# Altium schematic symbol library MPPT_SCH_Library.SchLib: 29 symbols
Pins are listed as number, name and electrical type; pins without a type are passive.

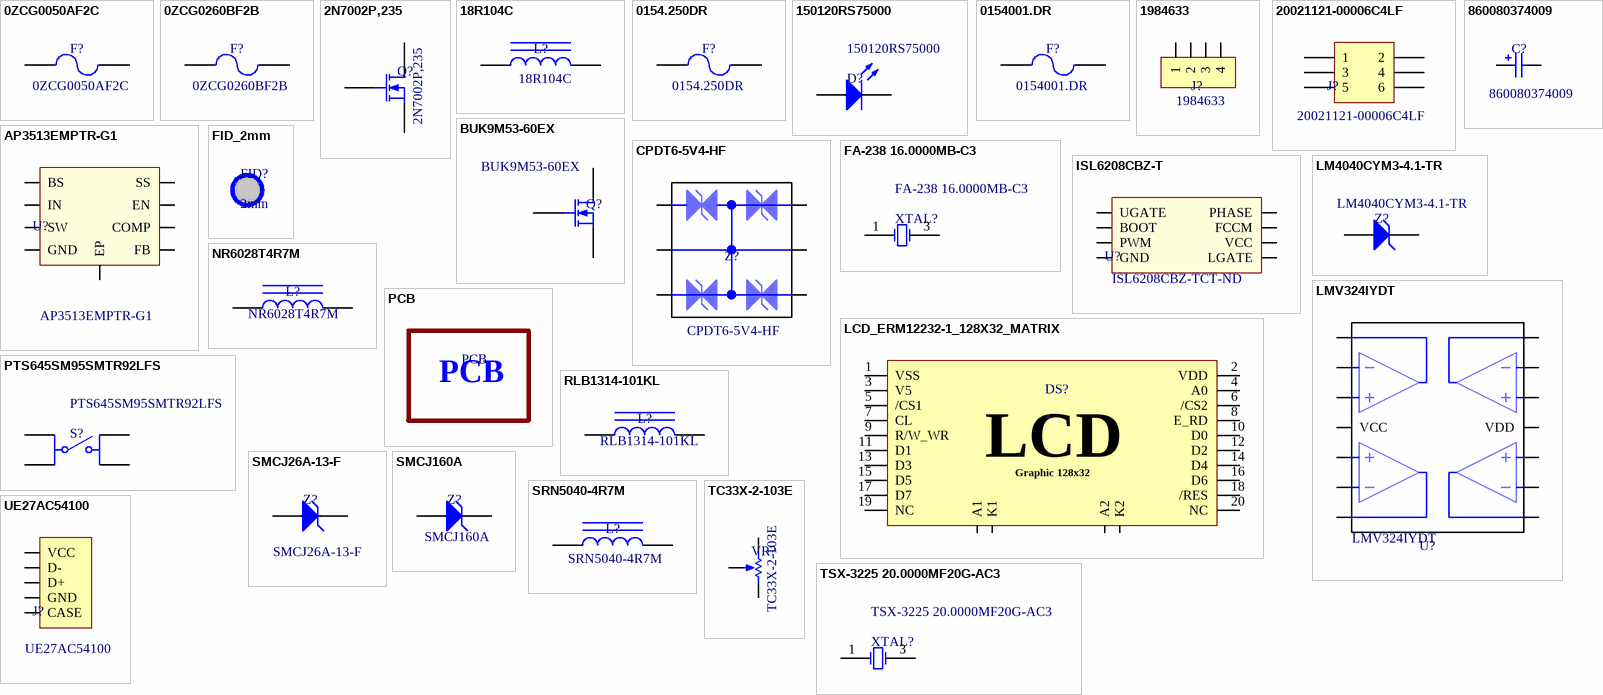
[diagram p0: symbols 0ZCG0050AF2C to UE27AC54100]

## 0ZCG0050AF2C
designator F?  Manufacturer Part Number: 0ZCG0050AF2C  (hidden comment: *)
PTC RESET FUSE 30V 500MA 1812; Manufacturer: Bel Fuse Inc.; Type: Polymeric; Approvals: cURus, TUV; Supplier 1: Digi-Key; RoHS: RoHS Compliant; Category: Circuit Protection; Stock 1: 287653; Pricing 1: 1=0.19, 5=0.186, 10=0.18, 50=0.1598, 100=0.1488, 250=0.13232, 500=0.11026, 1000=0.10475 (CAD); Packaging: Cut Tape (CT); Part Status: Active; Voltage - Max: 30V; Operating Temperature: -40°C ~ 85°C; Ratings: -; Mounting Type: Surface Mount; Package / Case: 1812 (4532 Metric), Concave; Size / Dimension: 0.179" L x 0.128" W (4.55mm x 3.24mm); Height - Seated (Max): -; Thickness (Max): 0.030" (0.75mm); Lead Spacing: -; ComponentLink1URL: https://www.belfuse.com/resources/CircuitProtection/datasheets/0ZCG%20Nov2016.pdf; ComponentLink1Description: https://www.belfuse.com/resources/CircuitProtection/datasheets/0ZCG%20Nov2016.pdf; Supplier Part Number 1: 507-1762-1-ND
footprint OZCG0_BEL_FUSE (Bel Fuse PPTC)
pins: 1, 2

## 0ZCG0260BF2B
designator F?  Manufacturer Part Number: 0ZCG0260BF2B  (hidden comment: *)
PTC RESET FUSE 16V 2.6A 1812; Manufacturer: Bel Fuse Inc.; Type: Polymeric; Approvals: cURus, TUV; Supplier 1: Digi-Key; RoHS: RoHS Compliant; Category: Circuit Protection; Stock 1: 58933; Pricing 1: 1=0.39, 5=0.376, 10=0.358, 50=0.3196, 100=0.2977, 250=0.26464, 500=0.22052 (CAD); Packaging: Cut Tape (CT); Part Status: Active; Voltage - Max: 16V; Operating Temperature: -40°C ~ 85°C; Ratings: -; Mounting Type: Surface Mount; Package / Case: 1812 (4532 Metric), Concave; Size / Dimension: 0.179" L x 0.128" W (4.55mm x 3.24mm); Height - Seated (Max): -; Thickness (Max): 0.061" (1.55mm); Lead Spacing: -; ComponentLink1URL: https://www.belfuse.com/resources/CircuitProtection/datasheets/0ZCG%20Nov2016.pdf; ComponentLink1Description: https://www.belfuse.com/resources/CircuitProtection/datasheets/0ZCG%20Nov2016.pdf; Supplier Part Number 1: 507-1780-1-ND
footprint OZCG0_BEL_FUSE (Bel Fuse PPTC)
pins: 1, 2

## 2N7002P,235
designator Q?  Manufacturer Part Number: 2N7002P,235  (hidden comment: *)
MOSFET N-CH 60V 0.36A SOT-23; Manufacturer: Nexperia USA Inc.; FET Type: N-Channel; Current - Continuous Drain (Id) @ 25°C: 360mA (Ta); Drive Voltage (Max Rds On,  Min Rds On): 10V; Vgs(th) (Max) @ Id: 2.4V @ 250µA; Vgs (Max): ±20V; Power Dissipation (Max): 350mW (Ta); Rds On (Max) @ Id, Vgs: 1.6 Ohm @ 500mA, 10V; Supplier 1: Digi-Key; RoHS: RoHS Compliant; Category: Discrete Semiconductor Products; Stock 1: 95195; Pricing 1: 1=0.22, 10=0.203, 100=0.1331, 500=0.06506, 1000=0.04437 (CAD); Packaging: Cut Tape (CT); Part Status: Active; Technology: MOSFET (Metal Oxide); FET Feature: -; Operating Temperature: -55°C ~ 150°C (TJ); Mounting Type: Surface Mount; Supplier Device Package: TO-236AB (SOT23); Package / Case: TO-236-3, SC-59, SOT-23-3; ComponentLink1URL: https://assets.nexperia.com/documents/data-sheet/2N7002P.pdf; ComponentLink1Description: https://assets.nexperia.com/documents/data-sheet/2N7002P.pdf; Supplier Part Number 1: 1727-1865-1-ND
footprint 2N7002,235 (SOT-23)
pins: 1 G, 2 S, 3 D

## 18R104C
designator L?  Manufacturer Part Number: 18R104C  (hidden comment: *)
FIXED IND 100UH 1.2A 100 MOHM TH; Manufacturer: Murata Power Solutions Inc.; Type: Wirewound; Tolerance: ±10%; Shielding: Unshielded; DC Resistance (DCR): 100 mOhm Max; Q @ Freq: 40 @ 100kHz; Supplier 1: Digi-Key; RoHS: RoHS Compliant; Category: Inductors, Coils, Chokes; Stock 1: 100; Pricing 1: 1=1.95, 10=1.923, 25=1.9088, 50=1.854, 100=1.7716, 250=1.64804, 500=1.53816, 1000=1.53431 (CAD); Packaging: Bulk; Part Status: Active; Material - Core: -; Ratings: -; Operating Temperature: 0°C ~ 70°C; Mounting Type: Through Hole; Package / Case: Radial, Vertical Cylinder; Supplier Device Package: -; Size / Dimension: 0.539" Dia (13.70mm); Height - Seated (Max): 0.626" (15.90mm); ComponentLink1URL: https://www.murata-ps.com/data/magnetics/kmp_1800r.pdf; ComponentLink1Description: https://www.murata-ps.com/data/magnetics/kmp_1800r.pdf; Supplier Part Number 1: 811-1320-ND
footprint muRata_1800R_Series (Murata Radial TH inductor)
pins: 1, 2

## 0154.250DR
designator F?  Manufacturer Part Number: 0154.250DR  (hidden comment: *)
FUSE BOARD MNT 250MA 125VAC/VDC; Manufacturer: Littelfuse Inc.; Fuse Type: Board Mount (Cartridge Style Excluded); Response Time: Fast; Breaking Capacity @ Rated Voltage: 50A; Approvals: UL; Supplier 1: Digi-Key; RoHS: RoHS Compliant; Category: Circuit Protection; Stock 1: 2479; Pricing 1: 1=4.13, 5=3.934, 10=3.737, 50=3.0158, 100=2.557, 250=2.49144, 500=2.09804 (CAD); Packaging: Cut Tape (CT); Part Status: Active; Package / Case: 2-SMD, Square End Block with Holder; Mounting Type: Holder, Surface Mount; Operating Temperature: -55°C ~ 125°C; Color: -; Size / Dimension: 0.383" L x 0.198" W x 0.150" H (9.73mm x 5.03mm x 3.81mm); ComponentLink1URL: http://www.littelfuse.com/~/media/electronics/datasheets/fuses/littelfuse_fuse_154_154t_154l_154tl_datasheet.pdf.pdf; ComponentLink1Description: http://www.littelfuse.com/~/media/electronics/datasheets/fuses/littelfuse_fuse_154_154t_154l_154tl_datasheet.pdf.pdf; Supplier Part Number 1: F1219CT-ND
footprint LITTELFUSE_154_154T_154L_154TL (LittelFuse Fuseholder 10A)
pins: 1, 2

## 150120RS75000
designator D?  Manufacturer Part Number: 150120RS75000  (hidden comment: *)
LED RED CLEAR 1206 SMD; Manufacturer: Wurth Electronics Inc.; Lens Color: Colorless; Millicandela Rating: 150mcd; Lens Style/Size: Rectangle with Flat Top, 2.00mm x 1.60mm; Voltage - Forward (Vf) (Typ): 2V; Current - Test: 20mA; Viewing Angle: 140°; Wavelength - Dominant: 625nm; Wavelength - Peak: 630nm; Supplier 1: Digi-Key; RoHS: RoHS Compliant; Category: Optoelectronics; Stock 1: 14076; Pricing 1: 1=0.27, 50=0.2582, 100=0.2211, 500=0.18952 (CAD); Packaging: Cut Tape (CT); Part Status: Active; Color: Red; Lens Transparency: Clear; Mounting Type: Surface Mount; Features: -; Package / Case: 1206 (3216 Metric); Supplier Device Package: 1206; Size / Dimension: 3.20mm L x 1.60mm W; Height (Max): 0.69mm; ComponentLink1URL: http://katalog.we-online.de/led/datasheet/150120RS75000.pdf; ComponentLink1Description: http://katalog.we-online.de/led/datasheet/150120RS75000.pdf; Supplier Part Number 1: 732-4991-1-ND
footprint 150120RS75000 (LED 1206 Package)
pins: 1 K, 2 A

## 0154001.DR
designator F?  Manufacturer Part Number: 0154001.DR  (hidden comment: *)
FUSE BRD MNT 1A 125VAC/VDC 2SMD; Manufacturer: Littelfuse Inc.; Fuse Type: Board Mount (Cartridge Style Excluded); Response Time: Fast; Breaking Capacity @ Rated Voltage: 50A; Approvals: PSE, UL; Supplier 1: Digi-Key; RoHS: RoHS Compliant; Category: Circuit Protection; Stock 1: 11418; Pricing 1: 1=3.5, 5=3.34, 10=3.172, 50=2.5608, 100=2.1711, 250=2.1154, 500=1.7814 (CAD); Packaging: Cut Tape (CT); Part Status: Active; Package / Case: 2-SMD, Square End Block with Holder; Mounting Type: Holder, Surface Mount; Operating Temperature: -55°C ~ 125°C; Color: -; Size / Dimension: 0.383" L x 0.198" W x 0.150" H (9.73mm x 5.03mm x 3.81mm); ComponentLink1URL: http://www.littelfuse.com/~/media/electronics/datasheets/fuses/littelfuse_fuse_154_154t_154l_154tl_datasheet.pdf.pdf; ComponentLink1Description: http://www.littelfuse.com/~/media/electronics/datasheets/fuses/littelfuse_fuse_154_154t_154l_154tl_datasheet.pdf.pdf; Supplier Part Number 1: F1222CT-ND
footprint LITTELFUSE_154_154T_154L_154TL (LittelFuse Fuseholder 10A)
pins: 1, 2

## 1984633
designator J?  Manufacturer Part Number: 1984633  (hidden comment: *)
CONN TERM BLOCK T/H 4POS 3.5MM; Manufacturer: Phoenix Contact; Positions Per Level: 4; Pitch: 0.138" (3.50mm); Mating Orientation: Horizontal with Board; Wire Gauge: 16-26 AWG; Wire Termination: Screw; Torque - Screw: 0.22-0.25 Nm (1.9-2.2 Lb-In); Screw Thread: M2; Supplier 1: Digi-Key; RoHS: RoHS Compliant; Category: Connectors, Interconnects; Stock 1: 4509; Pricing 1: 1=1.24, 10=1.185, 50=1.133, 100=1.1021, 250=1.03, 500=0.94762, 1000=0.87551 (CAD); Packaging: Bulk; Part Status: Active; Mounting Type: Through Hole; Features: Interlocking (Side); Color: Green; Operating Temperature: -; Housing Material: Polyamide (PA), Nylon; Contact Material - Plating: -; Clamp Material - Plating: -; Screw Material - Plating: -; ComponentLink1URL: https://media.digikey.com/pdf/Data%20Sheets/Phoenix%20Contact%20PDFs/Combicon%20Compact%20Series.pdf; ComponentLink1Description: https://media.digikey.com/pdf/Data%20Sheets/Phoenix%20Contact%20PDFs/Combicon%20Compact%20Series.pdf; Supplier Part Number 1: 277-1860-ND
footprint 1984633 (Phoenix Contact PCB Screw Termination Block 4 position)
pins: 1, 2, 3, 4

## 20021121-00006C4LF
designator J?  Manufacturer Part Number: 20021121-00006C4LF  (hidden comment: *)
CONN HEADER 6POS DL UNSHRD SMD; Manufacturer: Amphenol FCI; Pitch - Mating: 0.050" (1.27mm); Number of Positions: 6; Number of Positions Loaded: All; Style: Board to Board; Shrouding: Unshrouded; Contact Length - Mating: 0.120" (3.05mm); Material Flammability Rating: UL94 V-0; Supplier 1: Digi-Key; RoHS: RoHS Compliant; Category: Connectors, Interconnects; Stock 1: 40686; Pricing 1: 1=0.73, 10=0.683, 100=0.523 (CAD); Packaging: Cut Tape (CT); Part Status: Active; Connector Type: Header; Contact Type: Male Pin; Number of Rows: 2; Row Spacing - Mating: 0.050" (1.27mm); Mounting Type: Surface Mount; Termination: Solder; Fastening Type: Push-Pull; Contact Length - Post: -; Overall Contact Length: -; Insulation Height: -; Contact Shape: Square; Contact Finish - Mating: Gold; Contact Finish Thickness - Mating: 10µin (0.25µm); Contact Finish - Post: Tin; Contact Material: Copper Alloy; Insulation Material: Thermoplastic; Features: Pick and Place; Operating Temperature: -; Ingress Protection: -; Insulation Color: Black; Current Rating: -; Voltage Rating: -; Mated Stacking Heights: -; Contact Finish Thickness - Post: 50µin (1.27µm); Applications: -; ComponentLink1URL: https://cdn.amphenol-icc.com/media/wysiwyg/files/drawing/20021121.pdf; ComponentLink1Description: https://cdn.amphenol-icc.com/media/wysiwyg/files/drawing/20021121.pdf; Supplier Part Number 1: 609-3693-1-ND
footprint 20021121-00006 (2x3 Header 50 mil pitch)
pins: 1, 2, 3, 4, 5, 6

## 860080374009
designator C?  Manufacturer Part Number: 860080374009  (hidden comment: *)
CAP ALUM 220UF 20% 16V THRU HOLE; Manufacturer: Wurth Electronics Inc.; Lifetime @ Temp.: 3000 Hrs @ 105°C; Polarization: Polar; Supplier 1: Digi-Key; RoHS: RoHS Compliant; Category: Capacitors; Stock 1: 716; Pricing 1: 1=0.33, 50=0.276, 100=0.2403, 250=0.21424 (CAD); Packaging: Cut Tape (CT); Part Status: Active; Tolerance: ±20%; ESR (Equivalent Series Resistance): -; Operating Temperature: -55°C ~ 105°C; Ratings: -; Applications: General Purpose; Lead Spacing: 0.138" (3.50mm); Size / Dimension: 0.315" Dia (8.00mm); Height - Seated (Max): 0.512" (13.00mm); Surface Mount Land Size: -; Mounting Type: Through Hole; Package / Case: Radial, Can; ComponentLink1URL: http://katalog.we-online.de/pbs/datasheet/860080374009.pdf; ComponentLink1Description: http://katalog.we-online.de/pbs/datasheet/860080374009.pdf; Supplier Part Number 1: 732-8997-1-ND
footprint 860080374009
pins: 1, 2

## AP3513EMPTR-G1
designator U?  Manufacturer Part Number: AP3513EMPTR-G1  (hidden comment: *)
IC REG BUCK ADJ 3A SYNC 8SOIC; Manufacturer: Diodes Incorporated; Function: Step-Down; Output Configuration: Positive; Output Type: Adjustable; Number of Outputs: 1; Voltage - Input (Min): 4.5V; Voltage - Input (Max): 18V; Voltage - Output (Min/Fixed): 0.925V; Voltage - Output (Max): 16.2V; Frequency - Switching: 500kHz; Synchronous Rectifier: Yes; Supplier 1: Digi-Key; RoHS: RoHS Compliant; Category: Integrated Circuits (ICs); Stock 1: 23505; Pricing 1: 1=0.92, 10=0.791, 100=0.5905, 500=0.46394, 1000=0.3585 (CAD); Packaging: Cut Tape (CT); Part Status: Active; Topology: Buck; Current - Output: 3A; Operating Temperature: -40°C ~ 85°C (TA); Mounting Type: Surface Mount; Package / Case: 8-SOIC (0.154", 3.90mm Width) Exposed Pad; Supplier Device Package: 8-PSOP; ComponentLink1URL: https://www.diodes.com/assets/Datasheets/AP3513E.pdf; ComponentLink1Description: https://www.diodes.com/assets/Datasheets/AP3513E.pdf; Supplier Part Number 1: AP3513EMPTR-G1DICT-ND
footprint AP3513E (SOIC-8)
pins: 1 BS, 2 IN, 3 SW, 5 GND, 5 FB, 6 COMP, 7 EN, 8 SS, 9 EP

## BUK9M53-60EX
designator Q?  Manufacturer Part Number: BUK9M53-60EX  (hidden comment: *)
MOSFET N-CH 60V 17A LFPAK; Manufacturer: Nexperia USA Inc.; FET Type: N-Channel; Current - Continuous Drain (Id) @ 25°C: 17A (Tc); Drive Voltage (Max Rds On,  Min Rds On): 5V; Vgs(th) (Max) @ Id: 2.1V @ 1mA; Vgs (Max): ±10V; Power Dissipation (Max): 36W (Tc); Rds On (Max) @ Id, Vgs: 46 mOhm @ 5A, 10V; Supplier 1: Digi-Key; RoHS: RoHS Compliant; Category: Discrete Semiconductor Products; Stock 1: 481; Pricing 1: 1=0.73, 10=0.61, 100=0.4575, 500=0.33548 (CAD); Packaging: Cut Tape (CT); Part Status: Active; Technology: MOSFET (Metal Oxide); FET Feature: -; Operating Temperature: -55°C ~ 175°C (TJ); Mounting Type: Surface Mount; Supplier Device Package: LFPAK33; Package / Case: SOT-1210, 8-LFPAK33 (5-Lead); ComponentLink1URL: https://assets.nexperia.com/documents/data-sheet/BUK9M53-60E.pdf; ComponentLink1Description: https://assets.nexperia.com/documents/data-sheet/BUK9M53-60E.pdf; Supplier Part Number 1: 1727-2583-1-ND
footprint BUK9M53-60E (TSOP, 8-Leads, Body 3,30x2,60mm, Pitch 0,65mm, Thermal Pad 0,00x0,00mm, IPC Medium Density)
pins: 1 S, 2 S, 3 S, 4 G, 5 D, 6 D, 7 D, 8 D

## CPDT6-5V4-HF
designator Z?  Manufacturer Part Number: CPDT6-5V4-HF  (hidden comment: *)
TVS DIODE 5VWM 15VC SOT23-6; Manufacturer: Comchip Technology; Voltage - Reverse Standoff (Typ): 5V; Voltage - Breakdown (Min): 5.1V; Voltage - Clamping (Max) @ Ipp: 15V; Current - Peak Pulse (10/1000µs): 5A (8/20µs); Power - Peak Pulse: 75W; Power Line Protection: No; Supplier 1: Digi-Key; RoHS: RoHS Compliant; Stock 1: 31089; Pricing 1: 1=0.59, 10=0.499, 25=0.4356, 100=0.3734, 250=0.32368, 500=0.27384, 1000=0.21162 (CAD); Packaging: Cut Tape (CT); Part Status: Active; Type: Zener; Applications: General Purpose; Capacitance @ Frequency: -; Operating Temperature: -; Mounting Type: Surface Mount; Package / Case: SOT-23-6; Supplier Device Package: SOT-23-6; ComponentLink1URL: http://www.comchiptech.com/cms/UserFiles/CPDT6-5V4-HF%20RevC.pdf; ComponentLink1Description: http://www.comchiptech.com/cms/UserFiles/CPDT6-5V4-HF%20RevC.pdf; Supplier Part Number 1: 641-1086-1-ND; Category: Circuit Protection
footprint CPDT6-5V4-HF (SOT23, 6-Leads, Body 2,90x2,80mm, Pitch 0,95mm, IPC Medium Density)
pins: 1, 2, 3, 4, 5, 6

## FA-238 16.0000MB-C3
designator XTAL?  Manufacturer Part Number: FA-238 16.0000MB-C3  (hidden comment: *)
CRYSTAL 16.0000MHZ 18PF SMD; Manufacturer: EPSON; Frequency Stability: ±30ppm; Frequency Tolerance: ±50ppm; Operating Mode: Fundamental; Supplier 1: Digi-Key; RoHS: RoHS Compliant; Category: Crystals, Oscillators, Resonators; Stock 1: 31762; Pricing 1: 1=0.63, 10=0.524, 50=0.4706, 100=0.4183 (CAD); Packaging: Cut Tape (CT); Part Status: Active; Type: MHz Crystal; Load Capacitance: 18pF; Operating Temperature: -20°C ~ 70°C; Ratings: -; Mounting Type: Surface Mount; Package / Case: 4-SMD, No Lead; Size / Dimension: 0.126" L x 0.098" W (3.20mm x 2.50mm); Height - Seated (Max): 0.028" (0.70mm); ComponentLink1URL: https://support.epson.biz/td/api/doc_check.php?dl=brief_FA-238V_en.pdf; ComponentLink1Description: https://support.epson.biz/td/api/doc_check.php?dl=brief_FA-238V_en.pdf; Supplier Part Number 1: SER3686CT-ND
footprint EPSON_FA-238 (EPSON XTAL)
pins: 1 OSC1, 3 OSC2

## FID_2mm
designator FID?, comment 2mm  (no BOM)
Fiducial, 2mm
footprint FID_2MM (Fiducial, 2mm)

## ISL6208CBZ-T
designator U?  Supplier Part Number 1: ISL6208CBZ-TCT-ND  (hidden comment: *)
IC MOSFET DRVR SYNC BUCK 8-SOIC; Manufacturer: Intersil; Manufacturer Part Number: ISL6208CBZ-T; Driven Configuration: Half-Bridge; Channel Type: Synchronous; Gate Type: N-Channel MOSFET; Voltage - Supply: 4.5 V ~ 5.5 V; Logic Voltage - VIL, VIH: 0.5V, 2V; Current - Peak Output (Source, Sink): 2A, 2A; Input Type: Non-Inverting; Rise / Fall Time (Typ): 8ns, 8ns; Supplier 1: Digi-Key; RoHS: RoHS Compliant; Category: Integrated Circuits (ICs); Stock 1: 1957; Pricing 1: 1=2.62, 10=2.355, 100=1.893, 500=1.55528, 1000=1.28866 (CAD); Packaging: Cut Tape (CT); Part Status: Active; Operating Temperature: -10°C ~ 125°C (TJ); Mounting Type: Surface Mount; Package / Case: 8-SOIC (0.154", 3.90mm Width); Supplier Device Package: 8-SOIC; Base Part Number: ISL6208; ComponentLink1URL: http://www.intersil.com/content/dam/intersil/documents/isl6/isl6208-b.pdf; ComponentLink1Description: http://www.intersil.com/content/dam/intersil/documents/isl6/isl6208-b.pdf
footprint ISL6208CBZ-T (SOIC, 8-Leads, Body 4,90x3,90mm, Pitch 1,27mm, IPC Medium Density)
pins: 1 UGATE, 2 BOOT, 3 PWM, 4 GND, 5 LGATE, 6 VCC, 7 FCCM, 8 PHASE

## LCD_ERM12232-1_128X32_MATRIX
designator DS?
128x64 Graphic LCD Module, EastRising
footprint LCD_ERM12232
pins: 1 VSS, 2 VDD, 3 V5, 4 A0, 5 /CS1, 6 /CS2, 7 CL, 8 E_RD, 9 R/W_WR, 10 D0, 11 D1, 12 D2, 13 D3, 14 D4, 15 D5, 16 D6, 17 D7, 18 /RES, 19 NC, 20 NC, 21 A1, 22 K1, 23 A2, 24 K2
text: LCD; Graphic 128x32

## LM4040CYM3-4.1-TR
designator Z?  Manufacturer Part Number: LM4040CYM3-4.1-TR  (hidden comment: *)
IC VREF SHUNT 4.096V SOT23; Manufacturer: Microchip Technology; Output Type: Fixed; Tolerance: ±0.5%; Temperature Coefficient: 100ppm/°C; Noise - 10Hz to 10kHz: 80µVrms; Supplier 1: Digi-Key; RoHS: RoHS Compliant; Category: Integrated Circuits (ICs); Stock 1: 1871; Pricing 1: 1=0.5, 25=0.4032, 100=0.372 (CAD); Packaging: Cut Tape (CT); Part Status: Active; Reference Type: Shunt; Voltage - Output (Min/Fixed): 4.096V; Noise - 0.1Hz to 10Hz: -; Voltage - Input: -; Current - Supply: -; Operating Temperature: -40°C ~ 85°C (TA); Mounting Type: Surface Mount; Package / Case: TO-236-3, SC-59, SOT-23-3; Supplier Device Package: SOT-23-3; Base Part Number: LM4040; ComponentLink1URL: http://www.microchip.com/mymicrochip/filehandler.aspx?ddocname=en579040; ComponentLink1Description: http://www.microchip.com/mymicrochip/filehandler.aspx?ddocname=en579040; Supplier Part Number 1: 576-2568-1-ND
footprint LM4040C (SOT-23)
pins: 1 K, 2 A

## LMV324IYDT
designator U?  Manufacturer Part Number: LMV324IYDT  (hidden comment: *)
IC OPAMP GP 1.3MHZ RRO 14SO; Manufacturer: STMicroelectronics; Amplifier Type: General Purpose; Output Type: Rail-to-Rail; Slew Rate: 0.45 V/µs; Current - Supply: 162µA; Voltage - Supply, Single/Dual (±): 2.7 V ~ 6 V; Supplier 1: Digi-Key; RoHS: RoHS Compliant; Category: Integrated Circuits (ICs); Stock 1: 4245; Pricing 1: 1=0.91, 10=0.779, 100=0.5821, 500=0.4573, 1000=0.35339 (CAD); Packaging: Cut Tape (CT); Part Status: Active; Operating Temperature: -40°C ~ 125°C; Mounting Type: Surface Mount; Package / Case: 14-SOIC (0.154", 3.90mm Width); Supplier Device Package: 14-SO; Base Part Number: LMV324; ComponentLink1URL: http://www.st.com/content/ccc/resource/technical/document/datasheet/b9/d8/3b/8f/a1/8f/46/01/CD00079372.pdf/files/CD00079372.pdf/jcr:content/translations/en.CD00079372.pdf; ComponentLink1Description: http://www.st.com/content/ccc/resource/technical/document/datasheet/b9/d8/3b/8f/a1/8f/46/01/CD00079372.pdf/files/CD00079372.pdf/jcr:content/translations/en.CD00079372.pdf; Supplier Part Number 1: 497-10222-1-ND
footprint LMV324IYDT
pins: 1 OUT1, 2 IN-_1, 3 IN+_1, 4 VCC, 5 IN-_2, 6 IN+_2, 7 OUT_2, 8 OUT_3, 9 IN-_3, 10 IN+_3, 11 VDD, 12 IN+_4, 13 IN-_4, 14 OUT_4

## NR6028T4R7M
designator L?  Manufacturer Part Number: NR6028T4R7M  (hidden comment: *)
FIXED IND 4.7UH 3A 40.3 MOHM SMD; Manufacturer: Taiyo Yuden; Type: Wirewound; Material - Core: Ferrite; Tolerance: ±20%; Shielding: Shielded; DC Resistance (DCR): 40.3 mOhm Max; Supplier 1: Digi-Key; RoHS: RoHS Compliant; Category: Inductors, Coils, Chokes; Stock 1: 64654; Pricing 1: 1=0.53, 10=0.47, 100=0.3235, 500=0.27646, 1000=0.21175 (CAD); Packaging: Cut Tape (CT); Part Status: Active; Q @ Freq: -; Ratings: -; Operating Temperature: -25°C ~ 120°C; Mounting Type: Surface Mount; Package / Case: Nonstandard; Supplier Device Package: -; Size / Dimension: 0.236" L x 0.236" W (6.00mm x 6.00mm); Height - Seated (Max): 0.110" (2.80mm); ComponentLink1URL: https://www.yuden.co.jp/productdata/catalog/wound04_e.pdf; ComponentLink1Description: https://www.yuden.co.jp/productdata/catalog/wound04_e.pdf; Supplier Part Number 1: 587-2100-1-ND
footprint NR6028 (Taiyo Yuden SMD Inductor)
pins: 1, 2

## PCB
designator PCB  (value not drawn)
Printed Circuit Board

## PTS645SM95SMTR92LFS
designator S?  Manufacturer Part Number: PTS645SM95SMTR92LFS  (hidden comment: *)
SWITCH TACTILE SPST-NO 0.05A 12V; Manufacturer: C&K; Switch Function: Off-Mom; Contact Rating @ Voltage: 0.05A @ 12VDC; Actuator Type: Standard; Actuator Height off PCB, Vertical: 9.50mm; Actuator Orientation: Top Actuated; Outline: 6.00mm x 6.00mm; Illumination: Non-Illuminated; Operating Force: 160gf; Actuator Material: Polyamide (PA66), Nylon 6/6; Mechanical Life: 100,000 Cycles; Supplier 1: Digi-Key; RoHS: RoHS Compliant; Category: Switches; Stock 1: 8178; Pricing 1: 1=0.41, 10=0.404, 25=0.3896, 50=0.3752, 100=0.3545, 250=0.3336 (CAD); Packaging: Cut Tape (CT); Part Status: Active; Circuit: SPST-NO; Mounting Type: Surface Mount; Actuator Length, Right Angle: -; Termination Style: Gull Wing; Illumination Type, Color: -; Illumination Voltage (Nominal): -; Ingress Protection: -; Features: Blue Actuator; Switch Travel: -; Operating Temperature: -20°C ~ 60°C; ComponentLink1URL: http://www.ckswitches.com/media/1471/pts645.pdf; ComponentLink1Description: http://www.ckswitches.com/media/1471/pts645.pdf; Supplier Part Number 1: CKN10822CT-ND
footprint PTS645SM95SMTR92LFS (Pushbutton 9.5mm)
pins: 1, 2, 3, 4

## RLB1314-101KL
designator L?  Manufacturer Part Number: RLB1314-101KL  (hidden comment: *)
FIXED IND 100UH 1A 120 MOHM TH; Manufacturer: Bourns Inc.; Type: Wirewound; Material - Core: Ferrite; Tolerance: ±10%; Shielding: Unshielded; DC Resistance (DCR): 120 mOhm Max; Q @ Freq: 70 @ 796kHz; Supplier 1: Digi-Key; RoHS: RoHS Compliant; Category: Inductors, Coils, Chokes; Stock 1: 2475; Pricing 1: 1=0.74, 10=0.654, 100=0.467, 500=0.39228, 1000=0.31756, 2500=0.29888 (CAD); Packaging: Bulk; Part Status: Active; Ratings: -; Operating Temperature: -40°C ~ 105°C; Mounting Type: Through Hole; Package / Case: Radial; Supplier Device Package: -; Size / Dimension: 0.461" Dia (11.70mm); Height - Seated (Max): 0.512" (13.00mm); ComponentLink1URL: http://www.bourns.com/docs/Product-Datasheets/rlb.pdf; ComponentLink1Description: http://www.bourns.com/docs/Product-Datasheets/rlb.pdf; Supplier Part Number 1: RLB1314-101KL-ND
footprint BOURNS_RLB1314 (Murata Radial TH inductor)
pins: 1, 2

## SMCJ26A-13-F
designator Z?  Manufacturer Part Number: SMCJ26A-13-F  (hidden comment: *)
TVS DIODE 26VWM 42.1VC SMC; Manufacturer: Diodes Incorporated; Voltage - Reverse Standoff (Typ): 26V; Voltage - Breakdown (Min): 28.9V; Voltage - Clamping (Max) @ Ipp: 42.1V; Current - Peak Pulse (10/1000µs): 35.6A; Power - Peak Pulse: 1500W (1.5kW); Power Line Protection: No; Supplier 1: Digi-Key; RoHS: RoHS Compliant; Category: Circuit Protection; Stock 1: 3205; Pricing 1: 1=0.88, 10=0.77, 100=0.5905, 500=0.4668, 1000=0.37344 (CAD); Packaging: Cut Tape (CT); Part Status: Active; Type: Zener; Applications: General Purpose; Capacitance @ Frequency: -; Operating Temperature: -55°C ~ 150°C (TJ); Mounting Type: Surface Mount; Package / Case: DO-214AB, SMC; Supplier Device Package: SMC; Base Part Number: SMCJ26; ComponentLink1URL: https://www.diodes.com/assets/Datasheets/ds19003.pdf; ComponentLink1Description: https://www.diodes.com/assets/Datasheets/ds19003.pdf; Supplier Part Number 1: SMCJ26A-FDICT-ND
footprint SMCJxxx (DO-214AB (SMC J-Bend))
pins: 1 K, 2 A

## SMCJ160A
designator Z?  Manufacturer Part Number: SMCJ160A  (hidden comment: *)
TVS DIODE 160VWM 259VC SMC; Manufacturer: ON Semiconductor; Voltage - Reverse Standoff (Typ): 160V; Voltage - Breakdown (Min): 178V; Voltage - Clamping (Max) @ Ipp: 259V; Current - Peak Pulse (10/1000µs): 5.8A; Power - Peak Pulse: 1500W (1.5kW); Power Line Protection: No; Supplier 1: Digi-Key; RoHS: RoHS Compliant; Category: Circuit Protection; Stock 1: 16752; Pricing 1: 1=0.84, 10=0.732, 100=0.561, 500=0.44352, 1000=0.35481 (CAD); Packaging: Cut Tape (CT); Part Status: Active; Type: Zener; Applications: General Purpose; Capacitance @ Frequency: -; Operating Temperature: -; Mounting Type: Surface Mount; Package / Case: DO-214AB, SMC; Supplier Device Package: SMC (DO-214AB); Base Part Number: SMCJ160; ComponentLink1URL: https://www.fairchildsemi.com/datasheets/SM/SMCJ100A.pdf; ComponentLink1Description: https://www.fairchildsemi.com/datasheets/SM/SMCJ100A.pdf; Supplier Part Number 1: SMCJ160AFSCT-ND
footprint SMCJxxx (DO-214AB (SMC J-Bend))
pins: 1 K, 2 A

## SRN5040-4R7M
designator L?  Manufacturer Part Number: SRN5040-4R7M  (hidden comment: *)
FIXED IND 4.7UH 3.1A 35 MOHM SMD; Manufacturer: Bourns Inc.; Type: Wirewound; Material - Core: Ferrite; Tolerance: ±20%; Shielding: Semi-Shielded; DC Resistance (DCR): 35 mOhm Max; Q @ Freq: 15 @ 7.96MHz; Supplier 1: Digi-Key; RoHS: RoHS Compliant; Category: Inductors, Coils, Chokes; Stock 1: 798; Pricing 1: 1=0.6, 10=0.529, 100=0.3785, 500=0.31788 (CAD); Packaging: Cut Tape (CT); Part Status: Active; Ratings: -; Operating Temperature: -40°C ~ 125°C; Mounting Type: Surface Mount; Package / Case: Nonstandard; Supplier Device Package: -; Size / Dimension: 0.197" L x 0.197" W (5.00mm x 5.00mm); Height - Seated (Max): 0.157" (4.00mm); ComponentLink1URL: http://www.bourns.com/docs/Product-Datasheets/SRN5040.pdf; ComponentLink1Description: http://www.bourns.com/docs/Product-Datasheets/SRN5040.pdf; Supplier Part Number 1: SRN5040-4R7MCT-ND
footprint SRN5040 (Bourns Semi-Sheilded Inductor)
pins: 1, 2

## TC33X-2-103E
designator VR?  Manufacturer Part Number: TC33X-2-103E  (hidden comment: *)
TRIMMER 10K OHM 0.1W SMD; Manufacturer: Bourns Inc.; Power (Watts): 0.1W, 1/10W; Tolerance: ±25%; Temperature Coefficient: ±250ppm/°C; Adjustment Type: Top Adjustment; Resistive Material: Cermet; Supplier 1: Digi-Key; RoHS: RoHS Compliant; Category: Potentiometers, Variable Resistors; Stock 1: 75902; Pricing 1: 1=0.41, 10=0.405, 25=0.366, 50=0.3492, 100=0.3378, 250=0.31532, 500=0.28716, 1000=0.259 (CAD); Packaging: Cut Tape (CT); Part Status: Active; Mounting Type: Surface Mount; Termination Style: J Lead; Size / Dimension: Rectangular - 0.150" x 0.142" Face x 0.047" H (3.80mm x 3.60mm x 1.20mm); ComponentLink1URL: http://www.bourns.com/docs/Product-Datasheets/TC33.pdf; ComponentLink1Description: http://www.bourns.com/docs/Product-Datasheets/TC33.pdf; Supplier Part Number 1: TC33X-103ECT-ND
footprint TC33_BOURNS (Bourns Trimpot)
pins: 1 CCW, 2 WIPER, 3 CW

## TSX-3225 20.0000MF20G-AC3
designator XTAL?  Manufacturer Part Number: TSX-3225 20.0000MF20G-AC3  (hidden comment: *)
CRYSTAL 20.0000MHZ 9PF SMD; Manufacturer: EPSON; Frequency Stability: ±20ppm; Frequency Tolerance: ±10ppm; Operating Mode: Fundamental; Supplier 1: Digi-Key; RoHS: RoHS Compliant; Category: Crystals, Oscillators, Resonators; Stock 1: 5308; Pricing 1: 1=0.77, 10=0.643, 50=0.578, 100=0.5136 (CAD); Packaging: Cut Tape (CT); Part Status: Active; Type: MHz Crystal; Load Capacitance: 9pF; Operating Temperature: -40°C ~ 105°C; Ratings: -; Mounting Type: Surface Mount; Package / Case: 4-SMD, No Lead; Size / Dimension: 0.126" L x 0.098" W (3.20mm x 2.50mm); Height - Seated (Max): 0.024" (0.60mm); ComponentLink1URL: https://support.epson.biz/td/api/doc_check.php?dl=brief_FA-238V_en.pdf; ComponentLink1Description: https://support.epson.biz/td/api/doc_check.php?dl=brief_FA-238V_en.pdf; Supplier Part Number 1: SER3629CT-ND
footprint EPSON_TSX-3225 (EPSON XTAL)
pins: 1 OSC1, 3 OSC2

## UE27AC54100
designator J?  Manufacturer Part Number: UE27AC54100  (hidden comment: *)
CONN RCPT USB TYPE A R/A GOLD; Manufacturer: Amphenol Commercial Products; Connector Type: USB - A; Number of Contacts: 4; Gender: Receptacle; Specifications: USB 2.0; Current Rating: 1A per Contact; Voltage - Rated: 30VAC; Mating Cycles: 1500; Shielding: Shielded; Material Flammability Rating: UL94 V-0; Supplier 1: Digi-Key; RoHS: RoHS Compliant; Category: Connectors, Interconnects; Stock 1: 45705; Pricing 1: 1=0.55, 10=0.519, 25=0.4676, 50=0.4154, 100=0.398, 250=0.3634, 500=0.34608, 1000=0.28552, 2500=0.25956 (CAD); Packaging: Tray; Part Status: Active; Mounting Type: Through Hole, Right Angle; Mounting Feature: Horizontal; Termination: Solder; Features: Board Lock; Ingress Protection: -; Operating Temperature: -40°C ~ 85°C; Contact Finish: Gold; Shell/Shielding Material: Copper Alloy; Insulation Color: Black; ComponentLink1URL: https://www.amphenolcanada.com/ProductSearch/drawings/AC/UE27ACX4X0X.pdf; ComponentLink1Description: https://www.amphenolcanada.com/ProductSearch/drawings/AC/UE27ACX4X0X.pdf; Supplier Part Number 1: UE27AC54100-ND
footprint UE27AC5410 (USB Connector)
pins: 1 VCC, 2 D-, 3 D+, 4 GND, 5 CASE